# Altium footprint library Soardra.PcbLib: 139 footprints (part 3 of 9)
Each footprint in its own frame and in the unit in brackets; x right, y up, seen from the top. Pads: shape width x height; smd on the part's side, far side on the other; paste and mask are expansions set on the pad; w line width, h text height; cw(c..) or ccw(c..) is an arc to the next point about the centre after c.
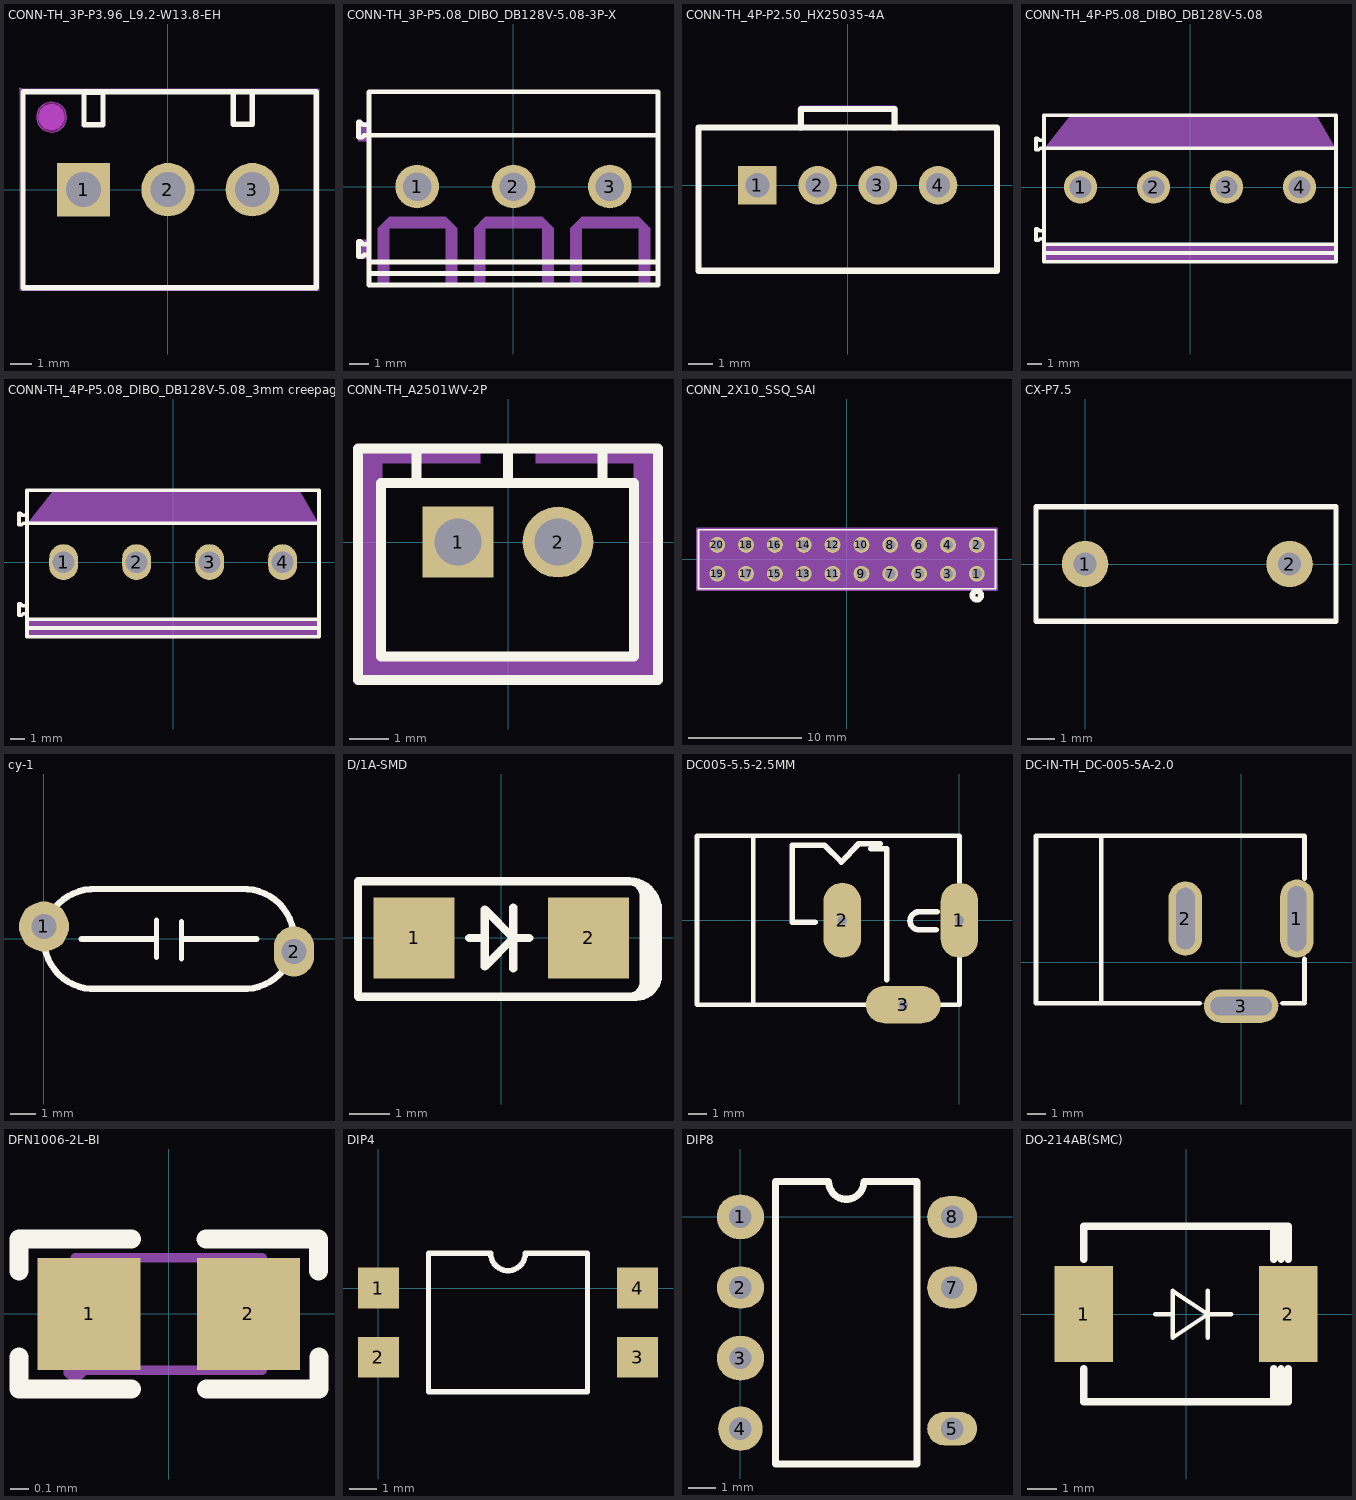
[diagram p2: the footprints below, top view; thin cyan lines are the x and y axes]

## CONN-TH_3P-P3.96_L9.2-W13.8-EH [mm]
pads (3):
  rect 2.5x2.5 hole 1.65 paste+0 mask+0.051: 1(-3.96,0)
  round 2.5 hole 1.65 paste+0 mask+0.051: 2(0,0) 3(3.96,0)
Top Overlay:
  lines w0.254: -6.8,-4.6 -6.8,4.6 6.96,4.6 6.96,-4.6 -6.8,-4.6 ; -3.937,3.048 -3.937,4.572 -3.048,4.572 -3.048,3.048 -3.937,3.048 ; 3.071,3.071 3.071,4.595 3.96,4.595 3.96,3.071 3.071,3.071
Keep-Out Layer:
  board cut-out: -4.76,3.4 -4.76,3.492 -4.808,3.67 -4.9,3.83 -5.03,3.96 -5.19,4.052 -5.368,4.1 -5.552,4.1 -5.73,4.052 -5.89,3.96 -6.02,3.83 -6.112,3.67 -6.16,3.492 -6.16,3.4 -6.16,3.308 -6.112,3.13 -6.02,2.97 -5.89,2.84 -5.73,2.748 -5.552,2.7 -5.368,2.7 -5.19,2.748 -5.03,2.84 -4.9,2.97 -4.808,3.13 -4.76,3.308 -4.76,3.4
Mechanical 1:
  circle w0.005: c-5.46,3.4 r0.7
Mechanical 15:
  region: -6.867,4.727 -6.867,4.752 -6.902,4.787 -6.952,4.787 -6.987,4.752 -6.987,4.727 -6.987,4.702 -6.952,4.667 -6.902,4.667 -6.867,4.702 -6.867,4.727
  region: -4.86,3.4 -4.86,3.519 -4.951,3.74 -5.12,3.909 -5.341,4 -5.579,4 -5.8,3.909 -5.969,3.74 -6.06,3.519 -6.06,3.4 -6.06,3.281 -5.969,3.06 -5.8,2.891 -5.579,2.8 -5.341,2.8 -5.12,2.891 -4.951,3.06 -4.86,3.281 -4.86,3.4
  region: -3.235,0 -3.235,0.095 -3.284,0.28 -3.38,0.445 -3.515,0.58 -3.68,0.676 -3.865,0.725 -4.055,0.725 -4.24,0.676 -4.405,0.58 -4.54,0.445 -4.636,0.28 -4.685,0.095 -4.685,0 -4.685,-0.095 -4.636,-0.28 -4.54,-0.445 -4.405,-0.58 -4.24,-0.676 -4.055,-0.725 -3.865,-0.725 -3.68,-0.676 -3.515,-0.58 -3.38,-0.445 -3.284,-0.28 -3.235,-0.095 -3.235,0
  region: 0.725,0 0.725,0.095 0.676,0.28 0.58,0.445 0.445,0.58 0.28,0.676 0.096,0.725 -0.095,0.725 -0.28,0.676 -0.445,0.58 -0.58,0.445 -0.675,0.28 -0.725,0.095 -0.725,0 -0.725,-0.095 -0.675,-0.28 -0.58,-0.445 -0.445,-0.58 -0.28,-0.676 -0.095,-0.725 0.096,-0.725 0.28,-0.676 0.445,-0.58 0.58,-0.445 0.676,-0.28 0.725,-0.095 0.725,0
  region: 4.685,0 4.685,0.095 4.636,0.28 4.54,0.445 4.405,0.58 4.24,0.676 4.056,0.725 3.865,0.725 3.68,0.676 3.515,0.58 3.38,0.445 3.285,0.28 3.235,0.095 3.235,0 3.235,-0.095 3.285,-0.28 3.38,-0.445 3.515,-0.58 3.68,-0.676 3.865,-0.725 4.056,-0.725 4.24,-0.676 4.405,-0.58 4.54,-0.445 4.636,-0.28 4.685,-0.095 4.685,0
  lines w0.051: -6.927,-4.727 -6.927,4.727 7.087,4.727 7.087,-4.727 -6.927,-4.727

## CONN-TH_3P-P5.08_DIBO_DB128V-5.08-3P-X [mm]
pads (3):
  round 2.3 hole 1.5 paste+0 mask+0.05: 1(-5.08,0) 2(0,0) 3(5.08,0)
Top Overlay:
  lines w0.254: -7.68,-3.6 -7.62,-3.598 -7.88,-3.598 -7.981,-3.697 -8.179,-3.697 -8.179,-2.897 -8.08,-2.897 -7.935,-3.045 -7.62,-3.045 ; -7.62,-4.585 7.62,-4.585 ; -7.62,-3.973 7.62,-3.973 ; -7.62,2.715 7.62,2.706 ; -7.62,3.254 -7.935,3.254 -8.08,3.401 -8.179,3.401 -8.179,2.601 -7.981,2.601 -7.88,2.7 -7.62,2.7 -7.58,2.7 ; -7.62,-5.2 7.62,-5.2 7.62,5 -7.62,5 -7.62,-5.2
Mechanical 6:
  region: -8.2,-2.8 -8.2,-3.8 -7.6,-3.8 -7.6,-2.8
  region: -8.2,3.4 -8.2,2.4 -7.6,2.4 -7.6,3.4
  region: 7.2,-5.2 7.2,-2.2 6.6,-2.2 6.6,-5.2
  region: 3,-5.2 3,-2.2 3.6,-2.2 3.6,-5.2
  region: 3,-2.2 3.6,-1.6 6.6,-1.6 7.2,-2.2
  region: 2.12,-5.2 2.12,-2.2 1.52,-2.2 1.52,-5.2
  region: -2.08,-5.2 -2.08,-2.2 -1.48,-2.2 -1.48,-5.2
  region: -2.08,-2.2 -1.48,-1.6 1.52,-1.6 2.12,-2.2
  region: -7.16,-2.2 -6.56,-1.6 -3.56,-1.6 -2.96,-2.2
  region: -2.96,-5.2 -2.96,-2.2 -3.56,-2.2 -3.56,-5.2
  region: -7.16,-5.2 -7.16,-2.2 -6.56,-2.2 -6.56,-5.2
Mechanical 15:
  region: 4.68,0.4 5.48,0.4 5.48,-0.4 4.68,-0.4
  region: -0.4,0.4 0.4,0.4 0.4,-0.4 -0.4,-0.4
  region: -5.48,0.4 -4.68,0.4 -4.68,-0.4 -5.48,-0.4
  region: -7.575,-5.2 -7.575,-5.175 -7.61,-5.14 -7.659,-5.14 -7.694,-5.175 -7.694,-5.2 -7.694,-5.225 -7.659,-5.26 -7.61,-5.26 -7.575,-5.225 -7.575,-5.2
  lines w0.051: -7.634,-5.2 7.606,-5.2 7.606,5 -7.634,5 -7.634,-5.2

## CONN-TH_4P-P2.50_HX25035-4A [mm]
pads (4):
  rect 1.6x1.6 hole 1 paste+0 mask+0.051: 1(-3.75,0)
  round 1.6 hole 1 paste+0 mask+0.051: 2(-1.25,0) 3(1.25,0) 4(3.75,0)
Top Overlay:
  lines w0.254: -1.947,2.4 -1.947,3.17 1.95,3.17 1.95,2.4 ; -6.2,-3.55 6.2,-3.55 6.2,2.4 -6.2,2.4 -6.2,-3.55
Mechanical 6:
  region: -2.074,2.4 -2.074,3.17 -2.074,3.195 -2.055,3.242 -2.019,3.278 -1.973,3.297 -1.947,3.297 1.95,3.297 1.975,3.297 2.022,3.278 2.058,3.242 2.077,3.195 2.077,3.17 2.077,2.4 2.077,2.347 2.003,2.273 1.897,2.273 1.823,2.347 1.823,2.4 1.823,3.043 -1.82,3.043 -1.82,2.4 -1.82,2.347 -1.895,2.273 -2,2.273 -2.074,2.347 -2.074,2.4
Mechanical 15:
  region: -4.07,0.32 -3.43,0.32 -3.43,-0.32 -4.07,-0.32
  region: -1.57,0.32 -0.93,0.32 -0.93,-0.32 -1.57,-0.32
  region: 0.93,0.32 1.57,0.32 1.57,-0.32 0.93,-0.32
  region: 3.43,0.32 4.07,0.32 4.07,-0.32 3.43,-0.32
  region: -6.14,-3.55 -6.14,-3.525 -6.175,-3.49 -6.225,-3.49 -6.26,-3.525 -6.26,-3.55 -6.26,-3.575 -6.225,-3.61 -6.175,-3.61 -6.14,-3.575 -6.14,-3.55
  lines w0.051: -6.2,-3.55 6.2,-3.55 6.2,2.4 1.95,2.43 1.95,3.17 -1.95,3.17 -1.95,2.43 -6.2,2.4 -6.2,-3.55

## CONN-TH_4P-P5.08_DIBO_DB128V-5.08 [mm]
pads (4):
  round 2.3 hole 1.5 paste+0 mask+0.05: 1(-7.62,0) 2(-2.54,0) 3(2.54,0) 4(7.62,0)
Top Overlay:
  lines w0.254: -10.22,-3.6 -10.16,-3.598 -10.42,-3.598 -10.521,-3.697 -10.719,-3.697 -10.719,-2.897 -10.62,-2.897 -10.475,-3.045 -10.16,-3.045 ; -10.16,-4.585 10.16,-4.585 ; -10.16,-3.973 10.16,-3.973 ; -10.16,2.715 10.16,2.706 ; -10.16,3.254 -10.475,3.254 -10.62,3.401 -10.719,3.401 -10.719,2.601 -10.521,2.601 -10.42,2.7 -10.16,2.7 -10.12,2.7 ; -10.16,-5.2 -10.16,5 10.16,5 10.16,-5.2 -10.16,-5.2
Mechanical 6:
  region: -8.3,5 -10.1,2.7 10.1,2.7 8.8,5
  region: -10.1,-4 -10.1,-5.2 10.1,-5.2 10.1,-4
Mechanical 15:
  region: -10.1,-5.2 -10.1,-5.175 -10.135,-5.14 -10.185,-5.14 -10.22,-5.175 -10.22,-5.2 -10.22,-5.225 -10.185,-5.26 -10.135,-5.26 -10.1,-5.225 -10.1,-5.2
  region: 7.22,0.4 8.02,0.4 8.02,-0.4 7.22,-0.4
  region: 2.14,0.4 2.94,0.4 2.94,-0.4 2.14,-0.4
  region: -2.94,0.4 -2.14,0.4 -2.14,-0.4 -2.94,-0.4
  region: -8.02,0.4 -7.22,0.4 -7.22,-0.4 -8.02,-0.4
  lines w0.051: -10.16,-5.2 -10.16,5 10.16,5 10.16,-5.2 -10.16,-5.2

## CONN-TH_4P-P5.08_DIBO_DB128V-5.08_3mm creepage [mm]
pads (4):
  oval 2x2.5 hole 1.5 paste+0 mask+0.05: 1(-7.62,0) 2(-2.54,0) 3(2.54,0) 4(7.62,0)
Top Overlay:
  lines w0.254: -10.22,-3.6 -10.16,-3.598 -10.42,-3.598 -10.521,-3.697 -10.719,-3.697 -10.719,-2.897 -10.62,-2.897 -10.475,-3.045 -10.16,-3.045 ; -10.16,-4.585 10.16,-4.585 ; -10.16,-3.973 10.16,-3.973 ; -10.16,2.715 10.16,2.706 ; -10.16,3.254 -10.475,3.254 -10.62,3.401 -10.719,3.401 -10.719,2.601 -10.521,2.601 -10.42,2.7 -10.16,2.7 -10.12,2.7 ; -10.16,-5.2 10.16,-5.2 10.16,5 -10.16,5 -10.16,-5.2
Mechanical 6:
  region: -10.1,-4 -10.1,-5.2 10.1,-5.2 10.1,-4
  region: -8.3,5 -10.1,2.7 10.1,2.7 8.8,5
Mechanical 15:
  region: -8.02,0.4 -7.22,0.4 -7.22,-0.4 -8.02,-0.4
  region: -2.94,0.4 -2.14,0.4 -2.14,-0.4 -2.94,-0.4
  region: 2.14,0.4 2.94,0.4 2.94,-0.4 2.14,-0.4
  region: 7.22,0.4 8.02,0.4 8.02,-0.4 7.22,-0.4
  region: -10.1,-5.2 -10.1,-5.175 -10.135,-5.14 -10.185,-5.14 -10.22,-5.175 -10.22,-5.2 -10.22,-5.225 -10.185,-5.26 -10.135,-5.26 -10.1,-5.225 -10.1,-5.2
  lines w0.051: -10.16,-5.2 10.16,-5.2 10.16,5 -10.16,5 -10.16,-5.2

## CONN-TH_A2501WV-2P [mm]
pads (2):
  rect 1.8x1.8 hole 1.2 mask+0.051: 1(-1.27,0)
  round 1.8 hole 1.2 mask+0.051: 2(1.27,0)
Top Overlay:
  lines w0.254: -3.231,1.501 -3.231,-2.901 3.2,-2.901 3.2,1.501 ; -3.23,1.5 3.2,1.5 ; -2.328,1.5 -2.328,2.3 ; 0,1.5 0,2.3 ; 2.4,1.5 2.4,2.3 ; -3.81,-3.5 3.81,-3.5 3.81,2.38 -3.81,2.38 -3.81,-3.5
Mechanical 6:
  region: -3.8,-3.4 -3.8,2.4 -3.2,2.4 -3.2,-3.4
  region: -3.2,-3.4 -3.2,-2.8 3.7,-2.8 3.7,-3.4
  region: 3.8,2.4 3.8,-3.4 3.2,-3.4 3.2,2.4
  region: -3.2,2.4 -0.7,2.4 -0.7,2 -3.2,2
  region: 3.2,2.4 0.7,2.4 0.7,2 3.2,2
Mechanical 15:
  region: -3.69,-3.454 -3.69,-3.429 -3.725,-3.394 -3.775,-3.394 -3.81,-3.429 -3.81,-3.454 -3.81,-3.479 -3.775,-3.514 -3.725,-3.514 -3.69,-3.479 -3.69,-3.454
  region: -0.95,-0.32 -1.59,-0.32 -1.59,0.32 -0.95,0.32
  region: 1.59,-0.32 0.95,-0.32 0.95,0.32 1.59,0.32
  lines w0.051: -3.75,-3.454 -3.75,2.296 3.75,2.296 3.75,-3.454 -3.75,-3.454
3D body "User Library-XH2_54_ZC_2P.STEP": height 7, standoff -4, extent -3.741,-3.553 3.659,2.247
3D body "User Library-XH2_54-2P Plug.STEP": height 14.4, standoff 1.55, extent -3.415,-3.35 3.865,2.35

## CONN_2X10_SSQ_SAI [mil]
pads (20):
  round 55 / inner round 60 / far side round 55 hole 35 paste-27.5 mask+0: 1(450,-50) 2(450,50) 3(350,-50) 4(350,50) 5(250,-50) 6(250,50) 7(150,-50) 8(150,50) 9(50,-50) 10(50,50) 11(-50,-50) 12(-50,50) 13(-150,-50) 14(-150,50) 15(-250,-50) 16(-250,50) 17(-350,-50) 18(-350,50) 19(-450,-50) 20(-450,50)
Top Overlay:
  circle w20: c450,-125 r15
  lines w6: -515,-102.5 -515,102.5 515,102.5 515,-102.5 -515,-102.5
Bottom Overlay:
  circle w20: c450,-125 r15
Mechanical 13:
  circle w0: c450,-50 r10
  lines w1: -510,-97.5 -510,97.5 510,97.5 510,-97.5 -510,-97.5
Mechanical 15:
  region: 520,107.5 487.5,107.5 -487.5,107.5 -520,107.5 -520,-107.5 -487.5,-107.5 487.5,-107.5 520,-107.5
  lines w6: -520,-107.5 -487.5,-107.5 487.5,-107.5 520,-107.5 520,107.5 487.5,107.5 -487.5,107.5 -520,107.5 -520,-107.5

## CX-P7.5 [mm]
height 1.14
pads (2):
  round 1.7 hole 0.85: 1(0,0) 2(7.5,0)
Top Overlay:
  lines w0.2: -1.8,-2.1 -1.8,2.1 9.2,2.1 9.2,-2.1 -1.8,-2.1

## cy-1 [mm]
pads (2):
  round 2 hole 1: 1(0,0.5)
  oval 1.6x2 hole 1: 2(10,-0.5)
Top Overlay:
  lines w0.2: 4.5,-0.75 4.5,0.75 ; 5.5,-0.8 5.5,0.7
  lines w0.254: 1.5,0 4.45,0 ; 1.875,1.996 ccw(c2,0) 1.875,-1.996 8.125,-1.996 ccw(c8,0) 8.125,1.996 ; 1.9,2 8.05,2 ; 5.525,0 8.5,0

## D/1A-SMD [mm]
pads (2):
  rect 2x2 smd: 1(-2.15,0) 2(2.15,0)
Top Overlay:
  rectangle: 3.505,-1.295 3.785,-0.076
  rectangle: 3.505,-0.305 3.861,1.041
  lines w0.203: -3.531,-1.321 -3.531,1.397 ; -3.531,-0.838 -3.531,-1.448 3.15,-1.448 ; -0.787,0 -0.406,0 ; 0.294,-0.751 0.294,0 ; 0.294,0.751 0.294,0 ; 0.686,0 0.294,0 ; 2.921,1.397 -3.531,1.397 ; 3.683,0.864 ccw(c3.15,0.864) 3.15,1.397 ; -3.531,1.397 3.15,1.397 ; 0.294,0 -0.406,0.701 -0.406,-0.701 0.294,0 ; 3.15,-1.448 ccw(c3.15,-1.092) 3.505,-1.092 3.505,1.041 ccw(c3.15,1.041) 3.15,1.397 ; 3.15,-1.448 3.327,-1.448 ccw(c3.327,-0.914) 3.861,-0.914 3.861,0.686 ccw(c3.15,0.686) 3.15,1.397

## DC005-5.5-2.5MM [mm]
height 0.5
pads (3):
  oval 2x4 hole 0.5 square: 1(0,0) 2(-6.25,0)
  oval 4x2 hole 0.5 square: 3(-3,-4.5)
Top Overlay:
  lines w0.25: -11,-4.5 -11,4.5 ; -14,-4.5 0,-4.5 0,4.5 -14,4.5 -14,-4.5
  lines w0.3: -7.71,-0.11 -8.91,-0.11 -8.91,4 -7.2,4 -6.3,3.1 -5.37,4.08 -4.22,4.08 ; -4.72,3.82 -3.87,3.82 -3.87,-3.17 ; -1.251,-0.509 -2.16,-0.509 cw(c-2.16,-0.03) -2.181,0.448 -1.198,0.448
3D body: height 6.7, standoff 0, extent -11,-4.5 0,4.5
3D body: height 11, standoff 0, extent -14,-4.5 -11,4.5
3D body: height 10.85, standoff 3.15, extent -13.524,-3.773 -0.024,3.927

## DC-IN-TH_DC-005-5A-2.0 [mm]
pads (3):
  oval 1.8x4.2 hole 1 slot 3.5 at 90 deg paste+0 mask+0.051: 1(3,2.352)
  oval 1.8x4 hole 1 slot 3.3 at 90 deg paste+0 mask+0.051: 2(-3,2.352)
  oval 4x1.8 hole 1 slot 3.3 at 0 deg paste+0 mask+0.051: 3(0,-2.352)
Top Overlay:
  region: -11.028,6.805 2.405,6.805 2.413,6.797
  lines w0.254: -7.527,-2.203 -7.527,6.797 ; -2.222,-2.203 -11.028,-2.203 -11.028,6.797 3.38,6.797 ; 2.221,-2.203 3.403,-2.203 ; 3.403,-2.072 3.403,0.195 ; 3.403,4.508 3.403,6.797
Mechanical 15:
  region: 3.463,6.797 3.463,6.822 3.428,6.857 3.378,6.857 3.343,6.822 3.343,6.797 3.343,6.772 3.378,6.737 3.428,6.737 3.463,6.772 3.463,6.797
  region: -3.2,1.102 -3.2,3.602 -2.8,3.602 -2.8,1.102
  region: 3.2,3.852 3.2,0.852 2.8,0.852 2.8,3.852
  region: -1.25,-2.152 1.25,-2.152 1.25,-2.552 -1.25,-2.552
  lines w0.051: -11.028,-2.203 3.403,-2.203 3.403,6.797 -11.028,6.797 -11.028,-2.203

## DFN1006-2L-BI [mm]
pads (2):
  rect 0.55x0.6 smd paste+0 mask+0.051: 1(-0.425,0) 2(0.425,0)
Top Overlay:
  lines w0.102: -0.8,-0.23 -0.8,-0.4 -0.2,-0.4 ; -0.8,0.229 -0.8,0.4 -0.2,0.4 ; 0.2,0.4 0.8,0.4 0.8,0.23 ; 0.203,-0.4 0.803,-0.4 0.803,-0.23
Mechanical 15:
  region: 0.225,0.254 0.475,0.254 0.475,-0.254 0.225,-0.254
  region: -0.475,0.254 -0.225,0.254 -0.225,-0.254 -0.475,-0.254
  region: -0.44,-0.3 -0.44,-0.275 -0.475,-0.24 -0.525,-0.24 -0.56,-0.275 -0.56,-0.3 -0.56,-0.325 -0.525,-0.36 -0.475,-0.36 -0.44,-0.325 -0.44,-0.3
  lines w0.051: -0.5,-0.3 -0.5,0.3 0.5,0.3 0.5,-0.3 -0.5,-0.3

## DIP4 [mm]
pads (4):
  rect 1.5x1.5 smd: 1(0,0) 2(0,-2.54) 3(9.5,-2.54) 4(9.5,0)
Top Overlay:
  lines w0.2: 1.835,-3.81 1.835,1.27 4.115,1.27 ccw(c4.75,1.27) 5.385,1.27 7.665,1.27 7.665,-3.81 1.835,-3.81

## DIP8 [mm]
pads (7):
  oval 1.7x1.6 hole 0.813: 1(0,0)
  oval 1.7x1.5 hole 0.813: 2(0,-2.54)
  oval 1.7x1.6 hole 0.8: 3(0,-5.08)
  round 1.6 hole 0.813: 4(0,-7.62)
  oval 1.8x1.2 hole 0.813: 5(7.62,-7.62)
  oval 1.8x1.5 hole 0.813: 7(7.62,-2.54) 8(7.62,0)
Top Overlay:
  lines w0.254: 1.27,-8.89 6.35,-8.89 6.35,1.27 4.445,1.27 cw(c3.81,1.27) 3.175,1.27 1.27,1.27 1.27,-8.89

## DO-214AB(SMC) [mm]
height 0.5
pads (2):
  rect 2x3.27 smd: 1(-3.5,0) 2(3.5,0)
Top Overlay:
  lines w0.15: -1.05,-0.01 -0.45,-0.01 ; 0.75,-0.81 0.75,0.79 ; 1.55,-0.01 0.75,-0.01 ; 0.75,-0.01 -0.45,0.79 -0.45,-0.81 0.75,-0.01
  lines w0.25: -3.5,-3 -3.5,-1.873 ; -3.5,-3 3.5,-3 3.5,-1.873 ; -3.5,1.873 -3.5,3.001 ; -3.5,3 3.5,3 3.5,1.873 ; 3,-3 3,-1.872 ; 3,1.873 3,3 ; 3.25,-3 3.25,-1.872 ; 3.25,1.873 3.25,3
3D body: height 2.6, standoff 2.5, extent 2.2,-3 2.4,2.9
3D body: height 2.6, standoff 2.5, extent 2.6,-3 2.8,2.9
3D body: height 2.6, standoff 2.5, extent 3,-3 3.2,2.9
3D body: height 2.5, standoff 0, extent -3.5,-3 3.5,3
3D body: height 0.25, standoff 0, extent -4.1,-1.5 -3.4,1.5
3D body: height 0.25, standoff 0, extent 3.5,-1.5 4.2,1.5